# EAGLE library part RD1-3-4-T (library misc)
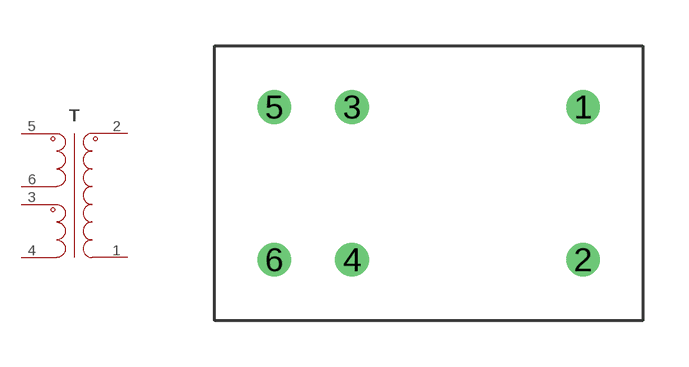
[diagram p90: symbol with the pads of RD1-3-4-T; footprint RD1-3-4-T]

Designator prefix T

## RD1-3-4-T (MANF: RakWireless; MANF#: RD1-3-4-T)  [RD1-3-4-T]
1  1
2  2
3  3
4  4
5  5
6  6

## Footprint RD1-3-4-T (pad centres in mm)
Description <https://aliexpress.ru/item/32843319868.html?pdp_npi=2%40dis%21RUB%2184%2C65%20%D1%80%D1%83%D0%B1.%2184%2C65%20%D1%80%D1%83%D0%B1.%21%21%21%21%21%40211675cc16590289715107818efa82%2165208196558%21sh&sku_id=65208196558&spm=a2g0o.store_pc_home.productList_6000277528095.subject_0>
drill 0.6: 1 5.05,2.5; 2 5.05,-2.5; 3 -2.51,2.5; 4 -2.51,-2.5; 5 -5.05,2.5; 6 -5.05,-2.5